# Altium footprint library 150040GS73220.PcbLib: 1 footprints
Each footprint in its own frame and in the unit in brackets; x right, y up, seen from the top. Pads: shape width x height; smd on the part's side, far side on the other; paste and mask are expansions set on the pad; w line width, h text height; cw(c..) or ccw(c..) is an arc to the next point about the centre after c.
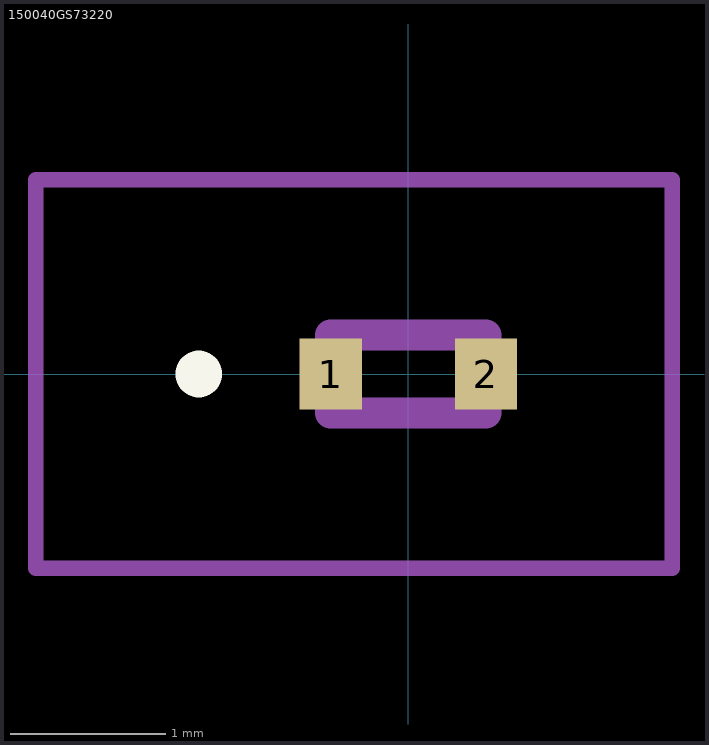
[diagram p0: the footprint, top view; thin cyan lines are the x and y axes]

## 150040GS73220 [mm]
pads (2):
  rect 0.4x0.46 smd: 1(-0.5,0) 2(0.5,0)
Top Overlay:
  lines w0.2: -1.4,0 cw(c-1.35,0) -1.3,0 ; -1.4,0 -1.4,0 ; -1.4,0 ccw(c-1.35,0) -1.3,0 ; -1.4,0 cw(c-1.35,0) -1.3,0 ; -1.3,0 -1.3,0 ; -1.3,0 -1.3,0
Mechanical 15:
  lines w0.2: -0.5,-0.25 0.5,-0.25 0.5,0.25 -0.5,0.25 -0.5,-0.25
Mechanical 20:
  lines w0.1: -2.4,-1.25 1.7,-1.25 1.7,1.25 -2.4,1.25 -2.4,-1.25
3D body "150040GS73220.stp": height 5.8, standoff -4.65, extent -10,-3.376 10,3.376